# EAGLE library part LTC-4624JR (library Jeff)
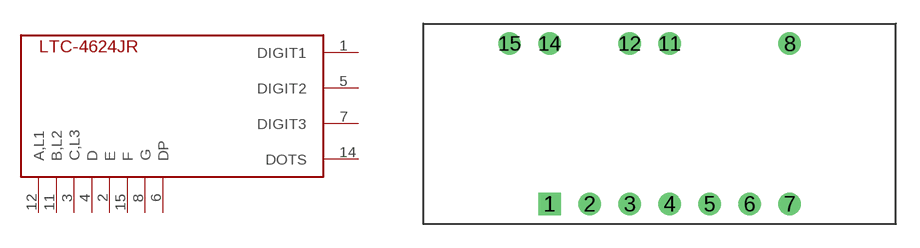
[diagram p3: symbol with the pads of LTC-4624JR; footprint LTC-4624JR]

Designator prefix -

## LTC-4624JR  [LTC-4624JR]
1  DIGIT1  in
2  E
3  C,L3
4  D
5  DIGIT2  in
6  DP
7  DIGIT3  in
8  G
11  B,L2
12  A,L1
14  DOTS  in
15  F

## Footprint LTC-4624JR (pad centres in mm)
drill 0.5 pad 1.422 square: 1 -5.715,-5.08
drill 0.5 pad 1.422: 2 -3.175,-5.08; 3 -0.635,-5.08; 4 1.905,-5.08; 5 4.445,-5.08; 6 6.985,-5.08; 7 9.525,-5.08; 8 9.525,5.08; 11 1.905,5.08; 12 -0.635,5.08; 14 -5.715,5.08; 15 -8.255,5.08